# EAGLE library part 3621AS (library Display)
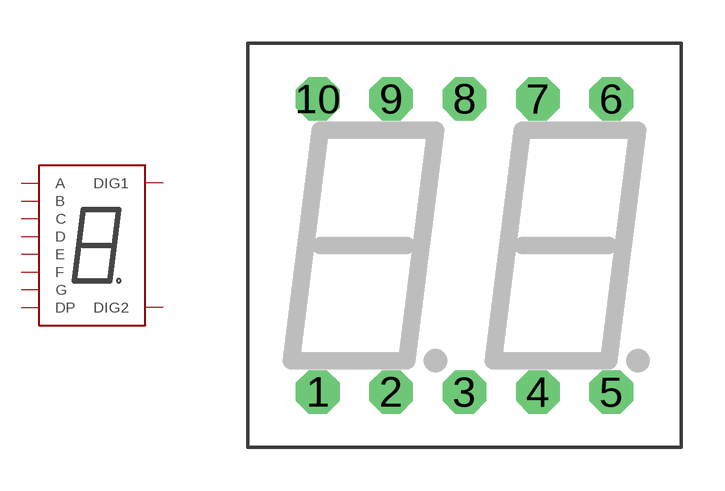
[diagram p10: symbol with the pads of TN_AS_2_0.36INCH; footprint TN_AS_2_0.36INCH]

Designator prefix -

## 3621AS  [TN_AS_2_0.36INCH]
1  G
2  DP
3  A
4  F
5  DIG2
6  D
7  E
8  C
9  B
10  DIG1

## Footprint TN_AS_2_0.36INCH (pad centres in mm)
drill 1 octagon: 1 -5.08,-5.08; 2 -2.54,-5.08; 3 0,-5.08; 4 2.54,-5.08; 5 5.08,-5.08; 6 5.08,5.08; 7 2.54,5.08; 8 0,5.08; 9 -2.54,5.08; 10 -5.08,5.08